# EAGLE library part DA14580 (library brandonsmith)
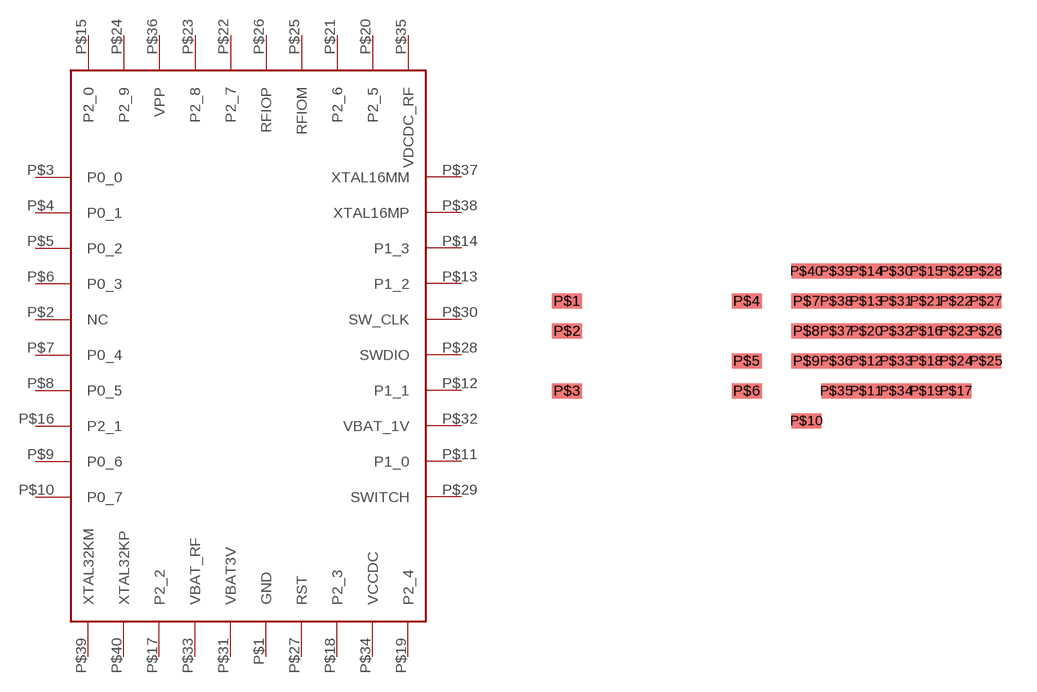
[diagram p1: symbol with the pads of DA14580; footprint DA14580]

Designator prefix -

## DA14580  [DA14580]
P$1  GND  pwr
P$2  NC  nc
P$3  P0_0
P$4  P0_1
P$5  P0_2
P$6  P0_3
P$7  P0_4
P$8  P0_5
P$9  P0_6
P$10  P0_7
P$11  P1_0
P$12  P1_1
P$13  P1_2
P$14  P1_3
P$15  P2_0
P$16  P2_1
P$17  P2_2
P$18  P2_3
P$19  P2_4
P$20  P2_5
P$21  P2_6
P$22  P2_7
P$23  P2_8
P$24  P2_9
P$25  RFIOM
P$26  RFIOP
P$27  RST
P$28  SWDIO
P$29  SWITCH
P$30  SW_CLK
P$31  VBAT3V  pwr
P$32  VBAT_1V  pwr
P$33  VBAT_RF  pwr
P$34  VCCDC  pwr
P$35  VDCDC_RF  pwr
P$36  VPP  pwr
P$37  XTAL16MM
P$38  XTAL16MP
P$39  XTAL32KM
P$40  XTAL32KP

## Footprint DA14580 (pad centres in mm)
smd 1.27 x 0.635: P$1 -5.08,3.81; P$2 -5.08,2.54; P$3 -5.08,0; P$4 2.54,3.81; P$5 2.54,1.27; P$6 2.54,0; P$7 5.08,3.81; P$8 5.08,2.54; P$9 5.08,1.27; P$10 5.08,-1.27; P$11 7.62,0; P$12 7.62,1.27; P$13 7.62,3.81; P$14 7.62,5.08; P$15 10.16,5.08; P$16 10.16,2.54; P$17 11.43,0; P$18 10.16,1.27; P$19 10.16,0; P$20 7.62,2.54; P$21 10.16,3.81; P$22 11.43,3.81; P$23 11.43,2.54; P$24 11.43,1.27; P$25 12.7,1.27; P$26 12.7,2.54; P$27 12.7,3.81; P$28 12.7,5.08; P$29 11.43,5.08; P$30 8.89,5.08; P$31 8.89,3.81; P$32 8.89,2.54; P$33 8.89,1.27; P$34 8.89,0; P$35 6.35,0; P$36 6.35,1.27; P$37 6.35,2.54; P$38 6.35,3.81; P$39 6.35,5.08; P$40 5.08,5.08